# EAGLE library part PI6CG18201ZDIEX (library vikc-ic)
Very Low Power 2-Output PCIe Clock Generator With On-chip Termination
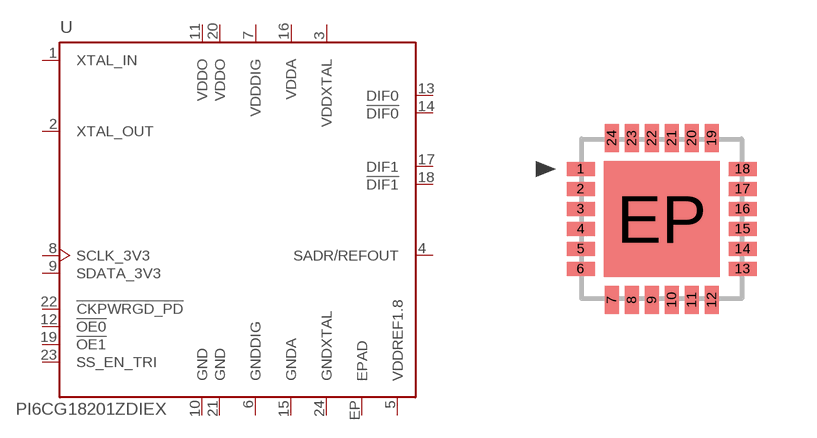
[diagram p11: symbol with the pads of TQFN-24; footprint TQFN-24]

Designator prefix U

## PI6CG18201ZDIEX  [TQFN-24]
1  XTAL_IN  in
2  XTAL_OUT  out
3  VDDXTAL  pwr
4  SADR/REFOUT
5  VDDREF1.8  pwr
6  GNDDIG  pwr
7  VDDDIG  pwr
8  SCLK_3V3
9  SDATA_3V3
10  GND  pwr
11  VDDO  pwr
12  !OE0  in
13  DIF0
14  !DIF0
15  GNDA  pwr
16  VDDA  pwr
17  DIF1
18  !DIF1
19  !OE1  in
20  VDDO  pwr
21  GND  pwr
22  !CKPWRGD_PD  in
23  SS_EN_TRI  in
24  GNDXTAL  pwr
EP  EPAD  pwr

## Footprint TQFN-24 (pad centres in mm)
smd 0.7 x 0.35: 1 -2.025,1.25; 2 -2.025,0.75; 3 -2.025,0.25; 4 -2.025,-0.25; 5 -2.025,-0.75; 6 -2.025,-1.25; 13 2.025,-1.25; 14 2.025,-0.75; 15 2.025,-0.25; 16 2.025,0.25; 17 2.025,0.75; 18 2.025,1.25
smd 0.35 x 0.7: 7 -1.25,-2.025; 8 -0.75,-2.025; 9 -0.25,-2.025; 10 0.25,-2.025; 11 0.75,-2.025; 12 1.25,-2.025; 19 1.25,2.025; 20 0.75,2.025; 21 0.25,2.025; 22 -0.25,2.025; 23 -0.75,2.025; 24 -1.25,2.025
smd 2.9 x 2.9: EP 0,0